# Altium schematic symbol library SZH-EK052.SchLib: 1 symbol
Pins are listed as number, name and electrical type; pins without a type are passive.

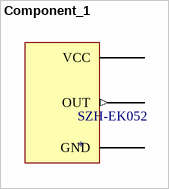
[diagram p0: symbol Component_1]

## Component_1
designator SZH-EK052
pins: VSS VCC (power), VSS OUT (out), VSS GND (power)